# Altium schematic symbol library MB0034A.01.A.1.SchLib: 1 symbol
Pins are listed as number, name and electrical type; pins without a type are passive.

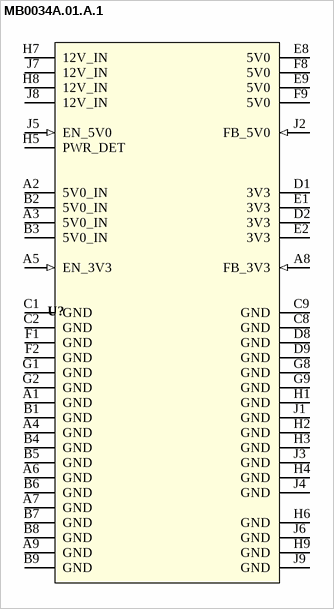
[diagram p0: symbol MB0034A.01.A.1]

## MB0034A.01.A.1
designator U?
Module Component 56-Pin, 10x10mm
pins: A1 GND (power), A2 5V0_IN (power), A3 5V0_IN (power), A4 GND (power), A5 EN_3V3 (in), A6 GND (power), A7 GND (power), A8 FB_3V3 (in), A9 GND (power), B1 GND (power), B2 5V0_IN (power), B3 5V0_IN (power), B4 GND (power), B5 GND (power), B6 GND (power), B7 GND (power), B8 GND (power), B9 GND (power), C1 GND (power), C2 GND (power), C8 GND (power), C9 GND (power), D1 3V3 (power), D2 3V3 (power), D8 GND (power), D9 GND (power), E1 3V3 (power), E2 3V3 (power), E8 5V0 (power), E9 5V0 (power), F1 GND (power), F2 GND (power), F8 5V0 (power), F9 5V0 (power), G1 GND (power), G2 GND (power), G8 GND (power), G9 GND (power), H1 GND (power), H2 GND (power), H3 GND (power), H4 GND (power), H5 PWR_DET, H6 GND (power), H7 12V_IN (power), H8 12V_IN (power), H9 GND (power), J1 GND (power), J2 FB_5V0 (in), J3 GND (power), J4 GND (power), J5 EN_5V0 (in), J6 GND (power), J7 12V_IN (power), J8 12V_IN (power), J9 GND (power)